# Altium footprint library LITTLEFUSE_111501.PcbLib: 1 footprints
Each footprint in its own frame and in the unit in brackets; x right, y up, seen from the top. Pads: shape width x height; smd on the part's side, far side on the other; paste and mask are expansions set on the pad; w line width, h text height; cw(c..) or ccw(c..) is an arc to the next point about the centre after c.
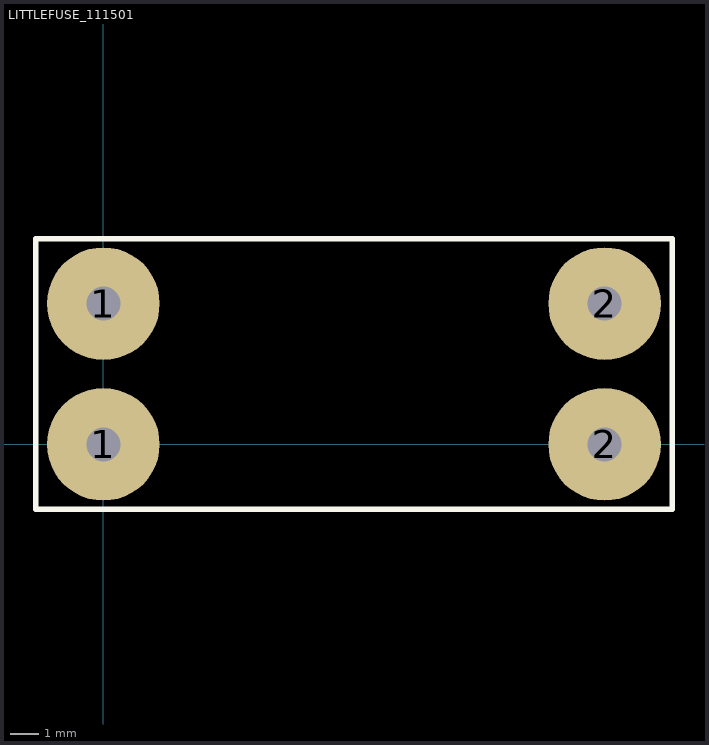
[diagram p0: the footprint, top view; thin cyan lines are the x and y axes]

## LITTLEFUSE_111501 [mm]
pads (4):
  round 4 hole 1.2: 1(0,0) 1(0,5) 2(17.8,0) 2(17.8,5)
Top Overlay:
  lines w0.2: -2.4,-2.3 20.2,-2.3 20.2,7.3 -2.4,7.3 -2.4,-2.3